# Altium schematic symbol library EEH-ZA1V470P.SchLib: 1 symbol
Pins are listed as number, name and electrical type; pins without a type are passive.

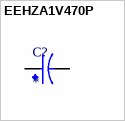
[diagram p0: symbol EEHZA1V470P]

## EEHZA1V470P
designator C?
MF: {'manufacturer': u'Panasonic Electronic'}; MP: EEHZA1V470P; Package: None; Price: None; Value: *; Availability: Unavailable
footprint CAP_EEHZA1V470P
pins: 1, 2